# EAGLE library part SLIDE_SWITCH (library wsn)
DPDT SLIDE SWITCH
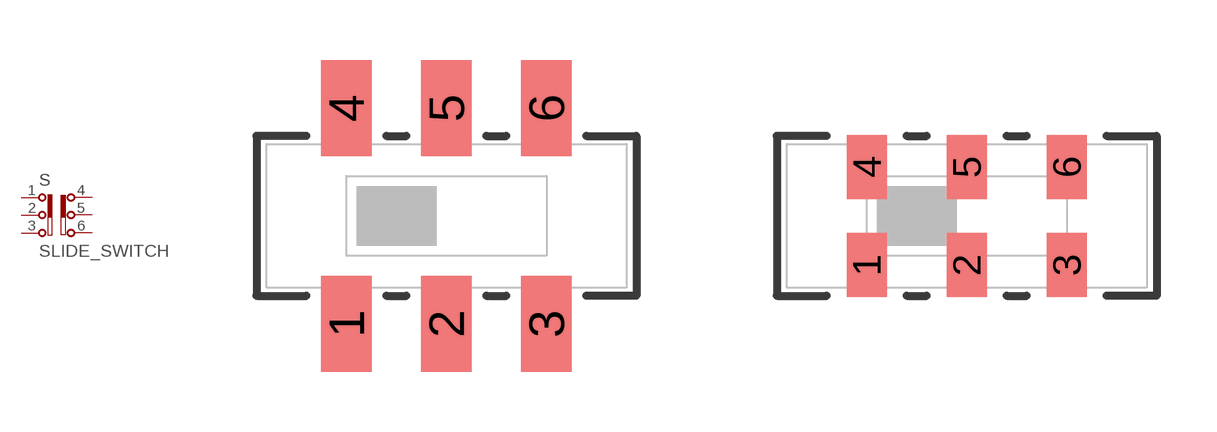
[diagram p63: symbol with the pads of JS202011SCQN; footprints JS202011SCQN, JS202011SCQN_2]

Designator prefix S

## SLIDE_SWITCH  [JS202011SCQN]
1  1  pas
2  2  pas
3  3  pas
4  4  pas
5  5  pas
6  6  pas

## SLIDE_SWITCHNARROW  [JS202011SCQN_2]
Pads as for JS202011SCQN

## Footprint JS202011SCQN (pad centres in mm)
DPDT SLIDE SWITCH
smd 1.27 x 2.4: 1 -2.5,-2.7; 2 0,-2.7; 3 2.5,-2.7; 4 -2.5,2.7; 5 0,2.7; 6 2.5,2.7

## Footprint JS202011SCQN_2 (pad centres in mm)
DPDT SLIDE SWITCH
smd 1 x 1.6: 1 -2.5,-1.23; 2 0,-1.23; 3 2.5,-1.23; 4 -2.5,1.23; 5 0,1.23; 6 2.5,1.23